# EAGLE library part 18_PIN_CONNECTOR (library Connectors)
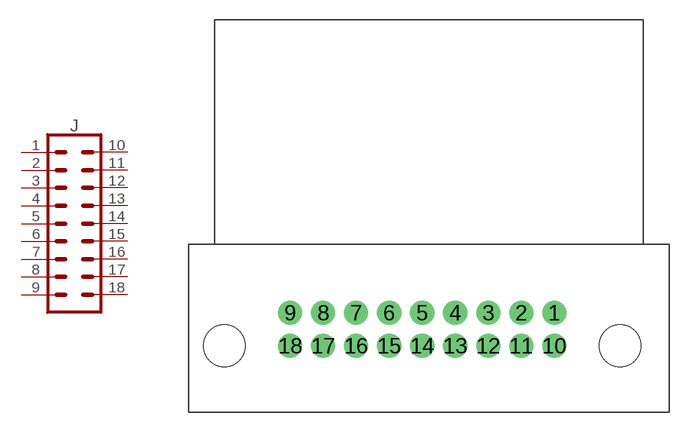
[diagram p14: symbol with the pads of TE_MQS_18_PIN; footprint TE_MQS_18_PIN]

Designator prefix J

## 18_PIN_CONNECTOR (MFG: TE Electronics; MPN: 1-963539-1)  [TE_MQS_18_PIN]
1  1  pas
2  2  pas
3  3  pas
4  4  pas
5  5  pas
6  6  pas
7  7  pas
8  8  pas
9  9  pas
10  10  pas
11  11  pas
12  12  pas
13  13  pas
14  14  pas
15  15  pas
16  16  pas
17  17  pas
18  18  pas

## Footprint TE_MQS_18_PIN (pad centres in mm)
18-pin PTH
drill 1 pad 1.85: 1 10.16,1.27; 2 7.62,1.27; 3 5.08,1.27; 4 2.54,1.27; 5 0,1.27; 6 -2.54,1.27; 7 -5.08,1.27; 8 -7.62,1.27; 9 -10.16,1.27; 10 10.16,-1.27; 11 7.62,-1.27; 12 5.08,-1.27; 13 2.54,-1.27; 14 0,-1.27; 15 -2.54,-1.27; 16 -5.08,-1.27; 17 -7.62,-1.27; 18 -10.16,-1.27
hole 3.2 at -15.24,-1.27
hole 3.2 at 15.24,-1.27